# Altium footprint library PcbLib1.PcbLib: 2 footprints
Each footprint in its own frame and in the unit in brackets; x right, y up, seen from the top. Pads: shape width x height; smd on the part's side, far side on the other; paste and mask are expansions set on the pad; w line width, h text height; cw(c..) or ccw(c..) is an arc to the next point about the centre after c.
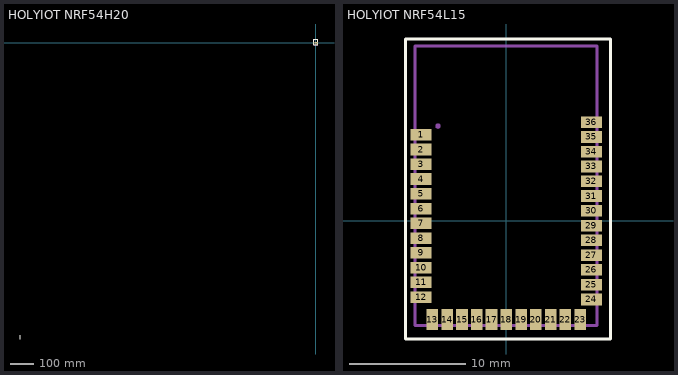
[diagram p0: the footprints below, top view; thin cyan lines are the x and y axes]

## HOLYIOT NRF54H20 [mm]
pads (84):
  rect 1.8x1 smd: 1(-7.6,8.255) 2(-7.6,6.985) 3(-7.6,5.715) 4(-7.6,4.445) 5(-7.6,3.175) 6(-7.6,1.905) 7(-7.6,0.635) 8(-7.6,-0.635) 9(-7.6,-1.905) 10(-7.6,-3.175) 11(-7.6,-4.445) 12(-7.6,-5.715) 13(-7.6,-6.985) 14(-7.6,-8.255) 15(-4.45,-8.255) 16(-4.45,-6.985) 17(-4.45,-5.715) 18(-4.45,-4.445) 19(-4.45,-3.175) 20(-4.45,-1.905) 21(-4.45,-0.635) 22(-4.45,0.635) 23(-4.45,1.905) 24(-4.45,3.175) 25(-4.45,4.445) 26(-4.45,5.715) 27(-4.45,6.985) 28(-4.45,8.255) 57(4.525,8.255) 58(4.525,6.985) 59(4.525,5.715) 60(4.525,4.445) 61(4.525,3.175) 62(4.525,1.905) 63(4.525,0.635) 64(4.525,-0.635) 65(4.525,-1.905) 66(4.525,-3.175) 67(4.525,-4.445) 68(4.525,-5.715) 69(4.525,-6.985) 70(4.525,-8.255) 71(7.6,-8.255) 72(7.6,-6.985) 73(7.6,-5.715) 74(7.6,-4.445) 75(7.6,-3.175) 76(7.6,-1.905) 77(7.6,-0.635) 78(7.6,0.635) 79(7.6,1.905) 80(7.6,3.175) 81(7.6,4.445) 82(7.6,5.715) 83(7.6,6.985) 84(7.6,8.255)
  rect 1.5x1 smd: 29(-1.451,8.255) 30(-1.451,6.985) 31(-1.451,5.715) 32(-1.451,4.445) 33(-1.451,3.175) 34(-1.451,1.905) 35(-1.451,0.635) 36(-1.451,-0.635) 37(-1.451,-1.905) 38(-1.451,-3.175) 39(-1.451,-4.445) 40(-1.451,-5.715) 41(-1.451,-6.985) 42(-1.451,-8.255) 43(1.674,-8.255) 44(1.674,-6.985) 45(1.674,-5.715) 46(1.674,-4.445) 47(1.674,-3.175) 48(1.674,-1.905) 49(1.674,-0.635) 50(1.674,0.635) 51(1.674,1.905) 52(1.674,3.175) 53(1.674,4.445) 54(1.674,5.715) 55(1.674,6.985) 56(1.674,8.255)
Top Overlay:
  lines w0.01: -1275.34,-1279.275 -1275.34,-1263.6
  lines w0.254: -9.025,-10.001 -9.025,15.874 9.1,15.874 9.1,-10.001 -9.025,-10.001
Mechanical 1:
  circle w0.254: c-6.725,9.149 r0.05
  lines w0.254: -8.25,-9.275 8.26,-9.275 8.26,15.225 -8.25,15.225 -8.25,-9.275
3D body "HOLYIOT-24008-nRF54H20.step": height 2.89, standoff 0, extent -8.28,-9.225 8.23,15.275

## HOLYIOT NRF54L15 [mm]
pads (36):
  rect 1.8x1 smd: 1(-7.32,7.412) 2(-7.32,6.142) 3(-7.32,4.872) 4(-7.32,3.602) 5(-7.32,2.332) 6(-7.32,1.062) 7(-7.32,-0.208) 8(-7.32,-1.478) 9(-7.32,-2.748) 10(-7.32,-4.018) 11(-7.32,-5.288) 12(-7.32,-6.558) 24(7.32,-6.753) 25(7.32,-5.478) 26(7.32,-4.208) 27(7.32,-2.938) 28(7.32,-1.668) 29(7.32,-0.398) 30(7.32,0.872) 31(7.32,2.142) 32(7.32,3.412) 33(7.32,4.682) 34(7.32,5.952) 35(7.32,7.222) 36(7.32,8.492)
  rect 1x1.8 smd: 13(-6.355,-8.492) 14(-5.08,-8.492) 15(-3.81,-8.492) 16(-2.54,-8.492) 17(-1.27,-8.492) 18(0,-8.492) 19(1.27,-8.492) 20(2.54,-8.492) 21(3.81,-8.492) 22(5.08,-8.492) 23(6.345,-8.492)
Top Overlay:
  lines w0.254: -8.655,-10.153 8.945,-10.153 8.945,15.647 -8.655,15.647 -8.655,-10.153
Mechanical 1:
  circle w0.254: c-5.88,8.158 r0.103
  lines w0.254: -7.845,-8.993 7.785,-8.993 7.785,15.047 -7.845,15.047 -7.845,-8.993
3D body "HOLYIOT-24005-nRF54L15.step": height 2.43, standoff 0, extent -7.84,-8.97 7.79,15.07